# Altium schematic symbol library 691 333 500 0xx.SchLib: 6 symbols
Pins are listed as number, name and electrical type; pins without a type are passive.

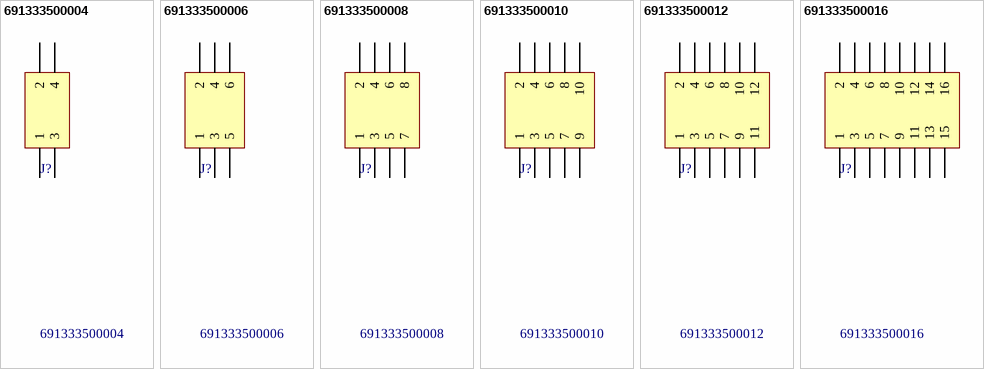
[diagram p0: symbols 691333500004 to 691333500016]

## 691333500004
designator J?
WR-TBL Terminal Blocks Serie 3335 - 5.08 mm; Manufacturer: Würth Elektronik eiSos GmbH; ComponentLink1 Description: Manufacturer; ComponentLink2 Description: Datasheet; NoPins: 04; Created Date: 9 January 2014; partNo: 691333500004; ComponentLink1URL: http://www.we-online.com; ComponentLink2URL: http://katalog.we-online.de/em/datasheet/6913335000xx.pdf; Created by: Karrer Zheng; Value: 691333500004
footprint 691333500004 (5,08mm - PCB - Dual row - Vertical - 04p)
pins: 1, 2, 3, 4

## 691333500006
designator J?
WR-TBL Terminal Blocks Serie 3335 - 5.08 mm; Manufacturer: Würth Elektronik eiSos GmbH; ComponentLink1 Description: Manufacturer; ComponentLink2 Description: Datasheet; NoPins: 06; Created Date: 9 January 2014; partNo: 691333500006; ComponentLink1URL: http://www.we-online.com; ComponentLink2URL: http://katalog.we-online.de/em/datasheet/6913335000xx.pdf; Created by: Karrer Zheng; Value: 691333500006
footprint 691333500006 (5,08mm - PCB - Dual row - Vertical - 06p)
pins: 1, 2, 3, 4, 5, 6

## 691333500008
designator J?
WR-TBL Terminal Blocks Serie 3335 - 5.08 mm; Manufacturer: Würth Elektronik eiSos GmbH; ComponentLink1 Description: Manufacturer; ComponentLink2 Description: Datasheet; NoPins: 08; Created Date: 9 January 2014; partNo: 691333500008; ComponentLink1URL: http://www.we-online.com; ComponentLink2URL: http://katalog.we-online.de/em/datasheet/6913335000xx.pdf; Created by: Karrer Zheng; Value: 691333500008
footprint 691333500008 (5,08mm - PCB - Dual row - Vertical - 08p)
pins: 1, 2, 3, 4, 5, 6, 7, 8

## 691333500010
designator J?
WR-TBL Terminal Blocks Serie 3335 - 5.08 mm; Manufacturer: Würth Elektronik eiSos GmbH; ComponentLink1 Description: Manufacturer; ComponentLink2 Description: Datasheet; NoPins: 10; Created Date: 9 January 2014; partNo: 691333500010; ComponentLink1URL: http://www.we-online.com; ComponentLink2URL: http://katalog.we-online.de/em/datasheet/6913335000xx.pdf; Created by: Karrer Zheng; Value: 691333500010
footprint 691333500010 (5,08mm - PCB - Dual row - Vertical - 10p)
pins: 1, 2, 3, 4, 5, 6, 7, 8, 9, 10

## 691333500012
designator J?
WR-TBL Terminal Blocks Serie 3335 - 5.08 mm; Manufacturer: Würth Elektronik eiSos GmbH; ComponentLink1 Description: Manufacturer; ComponentLink2 Description: Datasheet; NoPins: 12; Created Date: 9 January 2014; partNo: 691333500012; ComponentLink1URL: http://www.we-online.com; ComponentLink2URL: http://katalog.we-online.de/em/datasheet/6913335000xx.pdf; Created by: Karrer Zheng; Value: 691333500012
footprint 691333500012 (5,08mm - PCB - Dual row - Vertical - 12p)
pins: 1, 2, 3, 4, 5, 6, 7, 8, 9, 10, 11, 12

## 691333500016
designator J?
WR-TBL Terminal Blocks Serie 3335 - 5.08 mm; Manufacturer: Würth Elektronik eiSos GmbH; ComponentLink1 Description: Manufacturer; ComponentLink2 Description: Datasheet; NoPins: 16; Created Date: 9 January 2014; partNo: 691333500016; ComponentLink1URL: http://www.we-online.com; ComponentLink2URL: http://katalog.we-online.de/em/datasheet/6913335000xx.pdf; Created by: Karrer Zheng; Value: 691333500016
footprint 691333500016 (5,08mm - PCB - Dual row - Vertical - 16p)
pins: 1, 2, 3, 4, 5, 6, 7, 8, 9, 10, 11, 12, 13, 14, 15, 16